# Altium schematic symbol library ESP8266EX.SchLib: 1 symbol
Pins are listed as number, name and electrical type; pins without a type are passive.

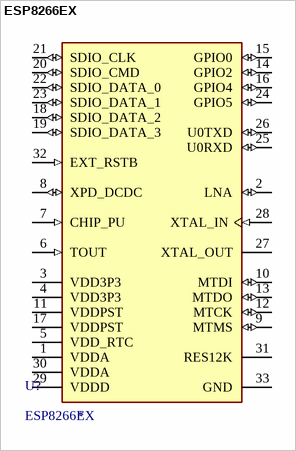
[diagram p0: symbol ESP8266EX]

## ESP8266EX
designator U?
QFN-32-EP(5x5) RF Transceiver ICs ROHS; LCSC: *
footprint ESP8266EX
pins: 1 VDDA (power) "Analog Power 2.5V ~ 3.6V", 2 LNA (io) "RF antenna interface", 3 VDD3P3 (power) "Amplifier Power 2.5V ~ 3.6V", 4 VDD3P3 (power) "Amplifier Power 2.5V ~ 3.6V", 5 VDD_RTC (power) "NC (1.1V)", 6 TOUT (in) "ADC pin. It can be used to test the power-supply voltage of VDD3P3 (Pin3 and Pin4) and the input power voltage of TOUT (Pin 6). However, these two functions cannot be used simultaneously.", 7 CHIP_PU (in) "Chip Enable", 8 XPD_DCDC (io) "Deep-sleep wakeup (need to be connected to EXT_RSTB); GPIO16", 9 MTMS (io) "GPIO 14; HSPI_CLK", 10 MTDI (io) "GPIO 12; HSPI_MISO", 11 VDDPST (power) "Digital/IO Power Supply (1.8V ~ 3.3V)", 12 MTCK (io) "GPIO 13; HSPI_MOSI; UART0_CTS", 13 MTDO (io) "GPIO 15; HSPI_CS; UART0_RTS", 14 GPIO2 (io) "UART Tx during flash programming; GPIO2", 15 GPIO0 (io) "GPIO0; SPI_CS2", 16 GPIO4 (io) "GPIO 4", 17 VDDPST (power) "Digital/IO Power Supply (1.8V ~ 3.3V)", 18 SDIO_DATA_2 (io) "Connect to SD_D2 (Series R: 200ohm); SPIHD; HSPIHD; GPIO 9", 19 SDIO_DATA_3 (io) "Connect to SD_D3 (Series R: 200phm); SPIWP; HSPIWP; GPIO 10", 20 SDIO_CMD (io) "Connect to SD_CMD (Series R: 200ohm); SPI_CS0; GPIO 11", 21 SDIO_CLK (io) "Connect to SD_CLK (Series R: 200ohm); SPI_CLK; GPIO 6", 22 SDIO_DATA_0 (io) "Connect to SD_D0 (Series R: 200ohm); SPI_MSIO; GPIO 7", 23 SDIO_DATA_1 (io) "Connect to SD_D1 (Series R: 200ohm); SPI_MOSI; GPIO 8", 24 GPIO5 (io) "GPIO 5", 25 U0RXD (io) "UART Rx during flash programming; GPIO 3", 26 U0TXD (io) "UART Tx during flash progamming; GPIO 1; SPI_CS1", 27 XTAL_OUT "Connect to crystal oscillator output, can be used to provide BT clock input", 28 XTAL_IN (in) "Connect to crystal oscillator input", 29 VDDD (power) "Analog Power 2.5V ~ 3.6V", 30 VDDA (power) "Analog Power 2.5V ~ 3.6V", 31 RES12K "Serial connection with a 12 kohm resistor and connect to the ground", 32 EXT_RSTB (in) "External reset signal (Low voltage level: Active)", 33 GND (power)